# EAGLE library part CSD16327Q3_DQG_8 (library texasinstruments)
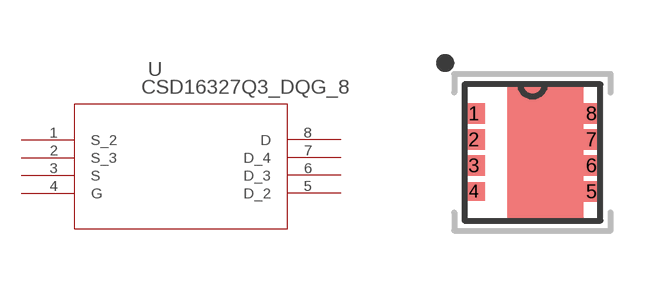
[diagram p5: symbol with the pads of DQG8; footprint DQG8]

Designator prefix U

## CSD16327Q3_DQG_8 (DATASHEETURL: http://www.ti.com/lit/gpn/CSD16327Q3; DESCRIPTION: N-Channel NexFET Power MOSFET; FAMILY_NAME: N-Channel MOSFET Transistors; GENERIC_PART_NUMBER: CSD16327Q3; INDUSTRY_STD_PKG_TYPE: SON; MANUFACTURER: Texas Instruments; PACKAGE_DESIGNATOR: DQG; PIN_COUNT: 8)  [DQG8]
1  S_2  pas
2  S_3  pas
3  S  pas
4  G  pas
5  D_2  pas
6  D_3  pas
7  D_4  pas
8  D  pas

## Footprint DQG8 (pad centres in mm)
smd 0.559 x 0.508: 1 -1.47,0.975; 2 -1.47,0.325; 3 -1.47,-0.325; 5 1.47,-0.975; 6 1.47,-0.325; 7 1.47,0.325; 8 1.47,0.975
smd 0.559 x 0.457: 4 -1.47,-0.975